# Altium schematic symbol library antenna.SchLib: 2 symbols
Pins are listed as number, name and electrical type; pins without a type are passive.

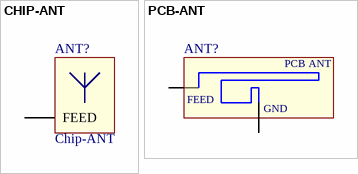
[diagram p0: symbols CHIP-ANT to PCB-ANT]

## CHIP-ANT
designator ANT?, comment Chip-ANT
Ceramic chip antenna
footprint 9x3x1.2 (Multilayer Chip Antenna Size (9.0*3.0*1.2mm3))
pins: 1 FEED

## PCB-ANT
designator ANT?  (value not drawn)
PCB antenna
footprint PCB_2.4_FR4-1MM (2.4-GHz Inverted F Antenna (PCB 1-mm thickness, FR-4 material))
pins: FEED, GND
text: PCB ANT